# Altium footprint library MyLib.PcbLib: 20 footprints (part 1 of 2)
Each footprint in its own frame and in the unit in brackets; x right, y up, seen from the top. Pads: shape width x height; smd on the part's side, far side on the other; paste and mask are expansions set on the pad; w line width, h text height; cw(c..) or ccw(c..) is an arc to the next point about the centre after c.
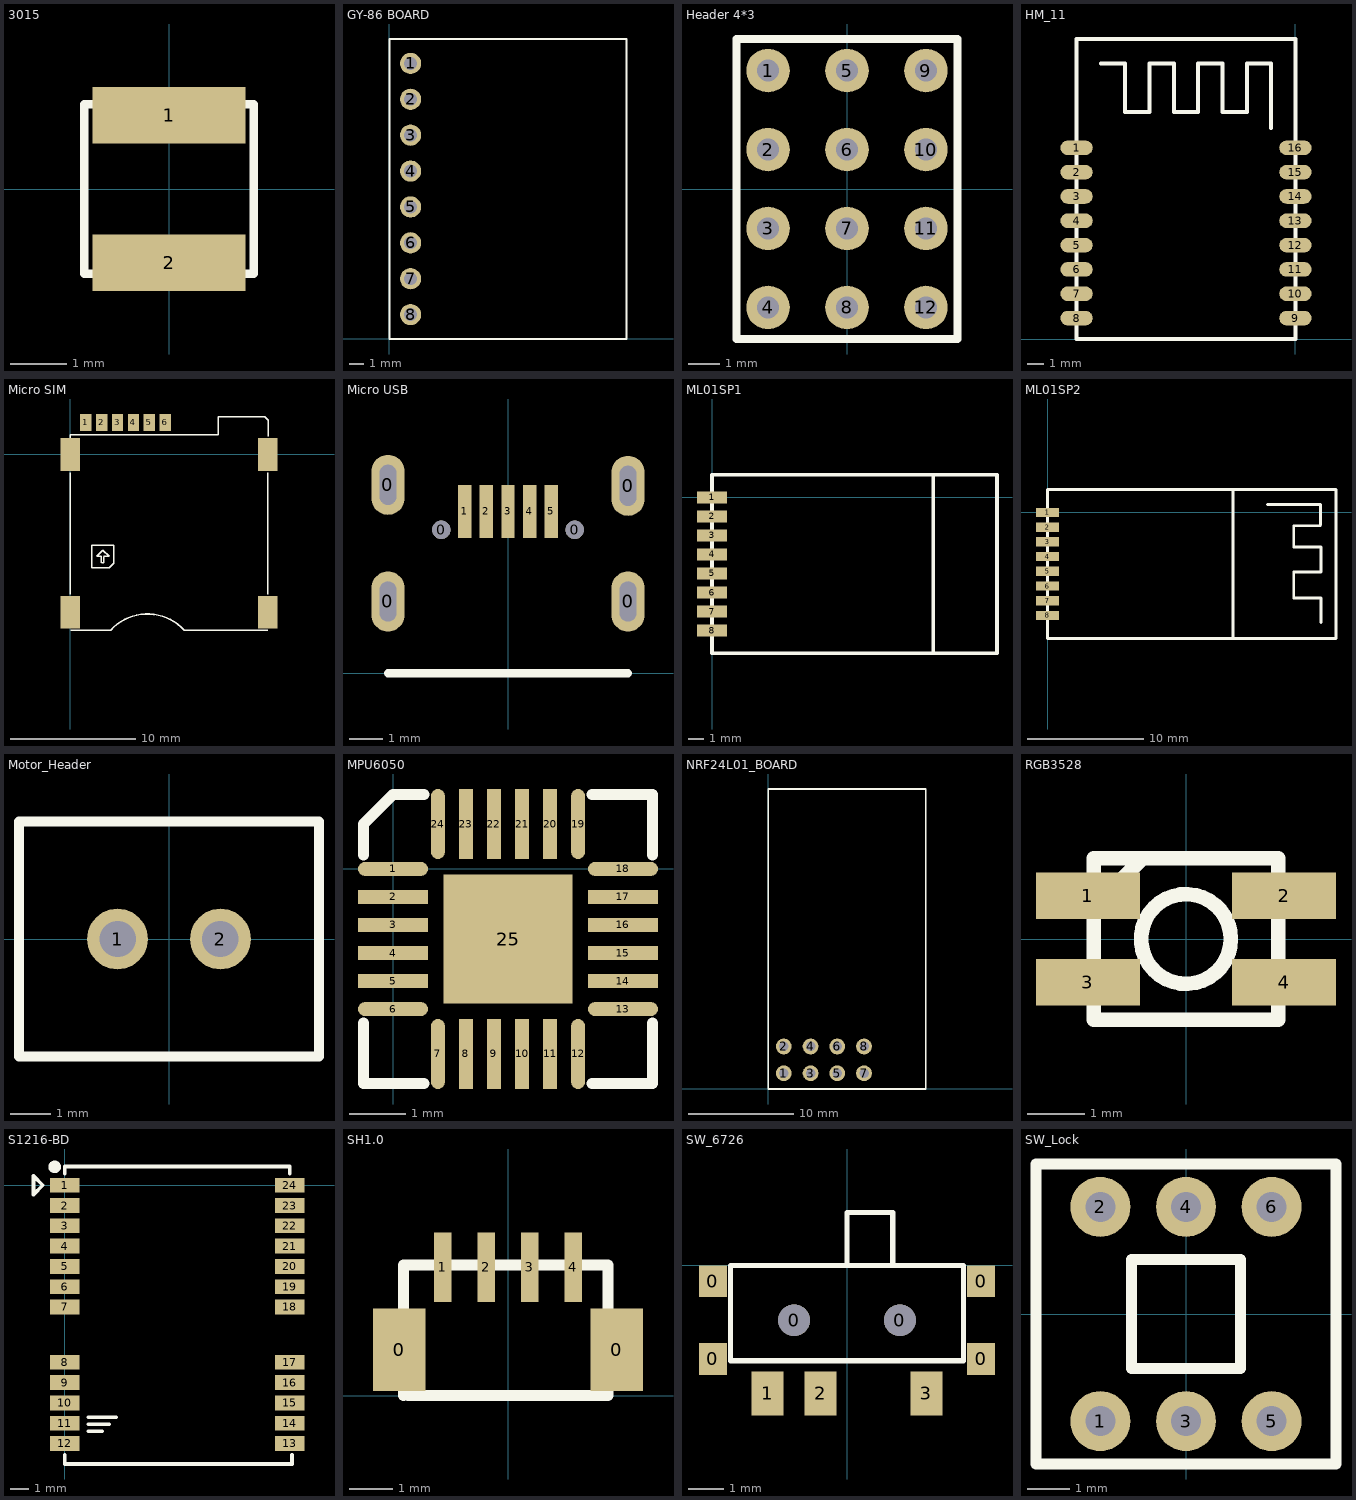
[diagram p0: the footprints below, top view; thin cyan lines are the x and y axes]

## 3015 [mm] "3.0*3.0*1.5mm"
pads (2):
  rect 2.7x1 smd: 1(0,1.3) 2(0,-1.3)
Top Overlay:
  lines w0.152: -1.5,-1.5 1.5,-1.5 1.5,1.5 -1.5,1.5 -1.5,-1.5

## GY-86 BOARD [mm] "GY-86模块"
pads (8):
  round 1.5 hole 0.9: 1(1.5,19.507) 2(1.5,16.967) 3(1.5,14.427) 4(1.5,11.887) 5(1.5,9.347) 6(1.5,6.807) 7(1.5,4.267) 8(1.5,1.727)
Top Overlay:
  lines w0.152: 0,0 0,21.234 16.789,21.234 16.789,0 0,0

## Header 4*3 [mm]
pads (12):
  round 1.4 hole 0.7: 1(-2.54,3.81) 2(-2.54,1.27) 3(-2.54,-1.27) 4(-2.54,-3.81) 5(0,3.81) 6(0,1.27) 7(0,-1.27) 8(0,-3.81) 9(2.54,3.81) 10(2.54,1.27) 11(2.54,-1.27) 12(2.54,-3.81)
Top Overlay:
  lines w0.254: -3.556,-4.826 -3.556,4.826 3.556,4.826 3.556,-4.826 -3.556,-4.826

## HM_11 [mm]
pads (16):
  oval 2x0.9 smd: 1(-13.5,11.79) 2(-13.5,10.29) 3(-13.5,8.79) 4(-13.5,7.29) 5(-13.5,5.79) 6(-13.5,4.29) 7(-13.5,2.79) 8(-13.5,1.29) 9(0,1.29) 10(0,2.79) 11(0,4.29) 12(0,5.79) 13(0,7.29) 14(0,8.79) 15(0,10.29) 16(0,11.79)
Top Overlay:
  lines w0.254: -12,17 -10.5,17 -10.5,14 -9,14 -9,17 -7.5,17 -7.5,14 -6,14 -6,17 -4.5,17 -4.5,14 -3,14 -3,17 -1.5,17 -1.5,13 ; -13.5,0 0,0 0,18.5 -13.5,18.5 -13.5,0

## Micro SIM [mm] "6P 自弹式"
pads (10):
  rect 0.9x1.34 smd: 1(1.24,2.565) 2(2.51,2.565) 3(3.78,2.565) 4(5.05,2.565) 5(6.32,2.565) 6(7.59,2.565)
  rect 1.56x2.61 smd: ""(0,-12.63) ""(0,0) ""(15.78,-12.63) ""(15.78,0)
Top Overlay:
  lines w0.1: 0,-11.176 0,-1.448 ; 0,1.346 0,1.575 1.723,1.575 11.832,1.575 11.832,2.769 11.832,2.993 11.857,3.018 15.54,3.018 15.82,2.739 15.82,2.515 15.82,1.448 ; 0.046,-14.064 3.225,-14.064 ; 2.095,-8.141 2.591,-7.645 3.099,-8.153 2.692,-8.153 ; 2.108,-8.153 2.489,-8.153 2.489,-8.661 ; 2.515,-8.661 2.692,-8.661 2.692,-8.179 ; 3.454,-8.585 3.454,-7.239 1.727,-7.239 1.727,-9.068 3.099,-9.068 3.454,-8.712 3.454,-8.357 ; 9.113,-14.046 15.799,-14.046 ; 15.799,-11.176 15.799,-1.473
  lines w0.14: 3.225,-14.041 cw(c6.167,-16.751) 9.113,-14.046

## Micro USB [mm] "micro usb 母座"
pads (11):
  oval 1x1.8 hole 0.5 slot 1.2 at 90 deg: 0(-3.6,2.15) 0(-3.6,5.65) 0(3.6,2.15) 0(3.6,5.62)
  round 0.55 hole 0.55 unplated: 0(-2,4.3) 0(2,4.3)
  rect 0.4x1.6 smd: 1(-1.3,4.85) 2(-0.65,4.85) 3(0,4.85) 4(0.65,4.85) 5(1.3,4.85)
Top Overlay:
  lines w0.254: -3.6,0 3.6,0

## ML01SP1 [mm] "nrf24l01, 不带PA放大, 电流30ma"
pads (8):
  rect 2x0.8 smd: 1(0,0) 2(0,-1.27) 3(0,-2.54) 4(0,-3.81) 5(0,-5.08) 6(0,-6.35) 7(0,-7.62) 8(0,-8.89)
Top Overlay:
  lines w0.254: 14.75,-10.35 14.75,1.5 ; 0,-10.4 0,1.5 19,1.5 19,-6.2 19,-10.4 0,-10.4

## ML01SP2 [mm] "nrf24l01模块, 邮票孔, 带PA放大, 传输距离1800m, PCB天线"
pads (8):
  rect 2x0.8 smd: 1(0,0) 2(0,-1.27) 3(0,-2.54) 4(0,-3.81) 5(0,-5.08) 6(0,-6.35) 7(0,-7.62) 8(0,-8.89)
Top Overlay:
  lines w0.254: 16,-10.9 16,2 ; 19,0.7 23.55,0.7 23.55,-1.1 23.5,-1.15 21.25,-1.15 21.25,-3 23.6,-3 23.6,-5.15 21.25,-5.15 21.25,-7.4 23.6,-7.4 23.6,-9.5 ; 0,-10.9 0,2 24.9,2 24.9,-6.2 24.9,-10.9 0,-10.9

## Motor_Header [mm]
pads (2):
  round 1.5 hole 0.9: 1(-1.27,0) 2(1.27,0)
Top Overlay:
  lines w0.254: -3.7,-2.9 3.7,-2.9 3.7,2.9 -3.7,2.9 -3.7,-2.9

## MPU6050 [mm]
pads (25):
  oval 1.25x0.25 smd: 1(0,0) 6(0,-2.5) 13(4.1,-2.5) 18(4.1,0)
  rect 1.25x0.25 smd: 2(0,-0.5) 3(0,-1) 4(0,-1.5) 5(0,-2) 14(4.1,-2) 15(4.1,-1.5) 16(4.1,-1) 17(4.1,-0.5)
  oval 0.25x1.25 smd: 7(0.8,-3.3) 12(3.3,-3.3) 19(3.3,0.8) 24(0.8,0.8)
  rect 0.25x1.25 smd: 8(1.3,-3.3) 9(1.8,-3.3) 10(2.3,-3.3) 11(2.8,-3.3) 20(2.8,0.8) 21(2.3,0.8) 22(1.8,0.8) 23(1.3,0.8)
  rect 2.3x2.3 smd: 25(2.05,-1.25)
Top Overlay:
  lines w0.2: -0.525,-2.75 -0.525,-3.825 0.55,-3.825 ; -0.525,0.25 -0.525,0.8 0,1.325 0.55,1.325 ; 3.55,-3.825 4.625,-3.825 4.625,-2.75 ; 3.55,1.325 4.625,1.325 4.625,0.25

## NRF24L01_BOARD [mm] "nrf24l01模块"
pads (8):
  round 1.5 hole 0.9: 1(1.5,1.5) 2(1.5,4.04) 3(4.04,1.5) 4(4.04,4.04) 5(6.58,1.5) 6(6.58,4.04) 7(9.12,1.5) 8(9.12,4.04)
Top Overlay:
  lines w0.152: 0,0 15,0 15,28.5 0,28.5 0,0

## RGB3528 [mm] "三色LED发光二极管"
pads (4):
  rect 1.8x0.8 smd: 1(-1.7,0.75) 2(1.7,0.75) 3(-1.7,-0.75) 4(1.7,-0.75)
Top Overlay:
  circle w0.254: c0,0 r0.778
  lines w0.254: -1.2,1.4 -1.15,1.4 ; -0.85,1.4 -0.75,1.4 -1.6,0.55 ; -1.6,0.55 -1.6,0.55 ; -1.6,-1.4 -1.6,1.4 1.6,1.4 1.6,-1.4 -1.6,-1.4

## S1216-BD [mm]
pads (24):
  rect 1.6x0.8 smd: 1(0,0) 2(0,-1.1) 3(0,-2.2) 4(0,-3.3) 5(0,-4.4) 6(0,-5.5) 7(0,-6.6) 8(0,-9.6) 9(0,-10.7) 10(0,-11.8) 11(0,-12.9) 12(0,-14) 13(12.2,-14) 14(12.2,-12.9) 15(12.2,-11.8) 16(12.2,-10.7) 17(12.2,-9.6) 18(12.2,-6.6) 19(12.2,-5.5) 20(12.2,-4.4) 21(12.2,-3.3) 22(12.2,-2.2) 23(12.2,-1.1) 24(12.2,0)
Top Overlay:
  circle w0.381: c-0.552,1 r0.152
  lines w0.152: -1.7,-0.5 -1.7,0.5 -1.2,0 -1.7,-0.5
  lines w0.203: 0,-14.605 0,-15.113 12.319,-15.113 12.319,-14.605 ; 0,0.635 0,1.016 12.192,1.016 12.192,0.635 ; 1.27,-13.335 2.032,-13.335 ; 1.27,-12.954 2.413,-12.954 ; 1.27,-12.573 2.794,-12.573 ; -1.2,0 -1.7,-0.5 -1.7,0.5 -1.2,0 ; -1.2,0 -1.2,0

## SH1.0 [mm] "sh1.0立式插座"
pads (6):
  rect 1.2x1.9 smd: 0(-2.5,1.05) 0(2.5,1.05)
  rect 0.4x1.6 smd: 1(-1.5,2.95) 2(-0.5,2.95) 3(0.5,2.95) 4(1.5,2.95)
Top Overlay:
  lines w0.254: -2.4,0 -2.4,3 2.3,3 2.3,0 -2.3,0

## SW_6726 [mm] "开关，67*26mm"
pads (9):
  rect 0.8x0.9 smd: 0(-3.8,-2.65) 0(-3.8,-0.45) 0(3.8,-2.65) 0(3.8,-0.45)
  round 0.9 hole 0.9: 0(-1.5,-1.55) 0(1.5,-1.55)
  rect 0.9x1.25 smd: 1(-2.25,-3.625) 2(-0.75,-3.625) 3(2.25,-3.625)
Top Overlay:
  lines w0.152: 0,0 0,1.5 1.3,1.5 1.3,0 ; -3.3,-2.7 3.3,-2.7 3.3,0 -3.3,0 -3.3,-2.7

## SW_Lock [mm]
pads (6):
  round 1.4 hole 0.7: 1(-2,-2.5) 2(-2,2.5) 3(0,-2.5) 4(0,2.5) 5(2,-2.5) 6(2,2.5)
Top Overlay:
  lines w0.254: -3.5,-3.5 3.5,-3.5 3.5,3.5 -3.5,3.5 -3.5,-3.5 ; -1.27,-1.27 1.27,-1.27 1.27,1.27 -1.27,1.27 -1.27,-1.27